# Altium footprint library Small Outline (+1.27mm Pitch).PcbLib: 4 footprints
Each footprint in its own frame and in the unit in brackets; x right, y up, seen from the top. Pads: shape width x height; smd on the part's side, far side on the other; paste and mask are expansions set on the pad; w line width, h text height; cw(c..) or ccw(c..) is an arc to the next point about the centre after c.
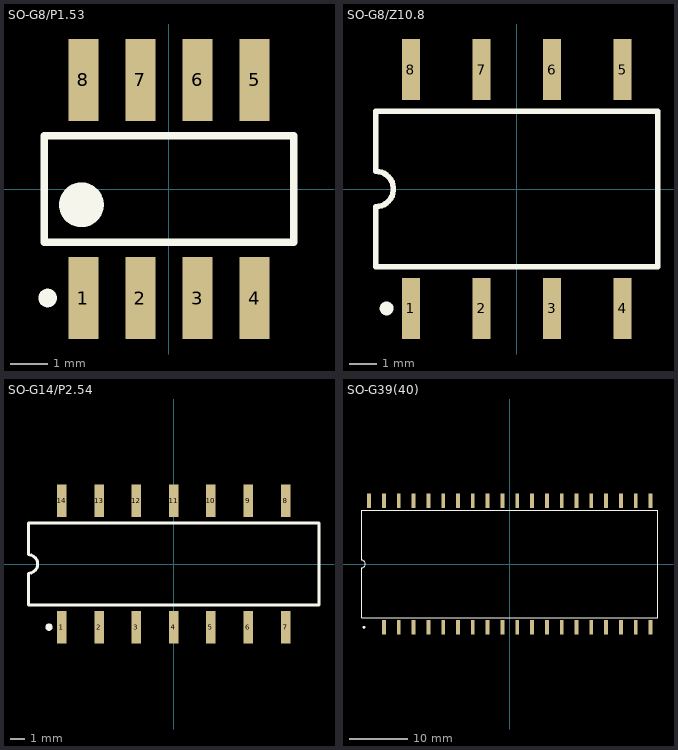
[diagram p0: the footprints below, top view; thin cyan lines are the x and y axes]

## SO-G8/P1.53 [mm] "Small Outline; 8 Leads; Body Width 3.5 mm; Pitch 1.53 mm"
height 1.7
pads (8):
  rect 0.8x2.2 smd: 1(-2.295,-2.925) 2(-0.765,-2.925) 3(0.765,-2.925) 4(2.295,-2.925) 5(2.295,2.925) 6(0.765,2.925) 7(-0.765,2.925) 8(-2.295,2.925)
Top Overlay:
  circle w0.25: c-3.255,-2.925 r0.125
  circle w0.6: c-2.35,-0.425 r0.3
  lines w0.2: -3.35,-1.425 -3.35,-0.475 -3.35,1.425 3.35,1.425 3.35,-1.425 -3.35,-1.425

## SO-G8/Z10.8 [mm] "Small Outline; 8 Leads; Body Width 6.4 mm; Pitch 2.54 mm"
height 4.57
pads (8):
  rect 0.65x2.2 smd: 1(-3.81,-4.3) 2(-1.27,-4.3) 3(1.27,-4.3) 4(3.81,-4.3) 5(3.81,4.3) 6(1.27,4.3) 7(-1.27,4.3) 8(-3.81,4.3)
Top Overlay:
  circle w0.25: c-4.685,-4.3 r0.125
  lines w0.2: -5.075,-2.8 5.075,-2.8 5.075,2.8 -5.075,2.8 -5.075,0.635 cw(c-5.075,0) -5.075,-0.635 -5.075,-2.8

## SO-G14/P2.54 [mm] "Small Outline; 14 Leads; Body Width 6.4 mm; Pitch 2.54 mm"
height 4.57
pads (14):
  rect 0.65x2.2 smd: 1(-7.62,-4.3) 2(-5.08,-4.3) 3(-2.54,-4.3) 4(0,-4.3) 5(2.54,-4.3) 6(5.08,-4.3) 7(7.62,-4.3) 8(7.62,4.3) 9(5.08,4.3) 10(2.54,4.3) 11(0,4.3) 12(-2.54,4.3) 13(-5.08,4.3) 14(-7.62,4.3)
Top Overlay:
  circle w0.25: c-8.495,-4.3 r0.125
  lines w0.2: -9.9,-2.8 -9.9,-0.635 ccw(c-9.9,0) -9.9,0.635 -9.9,2.8 9.9,2.8 9.9,-2.8 -9.9,-2.8

## SO-G39(40) [mm] "Small Outline; 39 Leads; Pitch 2.54 mm"
height 9.53
pads (39):
  rect 0.65x2.55 smd: 2(-21.59,-10.85) 3(-19.05,-10.85) 4(-16.51,-10.85) 5(-13.97,-10.85) 6(-11.43,-10.85) 7(-8.89,-10.85) 8(-6.35,-10.85) 9(-3.81,-10.85) 10(-1.27,-10.85) 11(1.27,-10.85) 12(3.81,-10.85) 13(6.35,-10.85) 14(8.89,-10.85) 15(11.43,-10.85) 16(13.97,-10.85) 17(16.51,-10.85) 18(19.05,-10.85) 19(21.59,-10.85) 20(24.13,-10.85) 21(24.13,10.85) 22(21.59,10.85) 23(19.05,10.85) 24(16.51,10.85) 25(13.97,10.85) 26(11.43,10.85) 27(8.89,10.85) 28(6.35,10.85) 29(3.81,10.85) 30(1.27,10.85) 31(-1.27,10.85) 32(-3.81,10.85) 33(-6.35,10.85) 34(-8.89,10.85) 35(-11.43,10.85) 36(-13.97,10.85) 37(-16.51,10.85) 38(-19.05,10.85) 39(-21.59,10.85) 40(-24.13,10.85)
Top Overlay:
  circle w0.25: c-24.98,-10.85 r0.125
  lines w0.2: -25.4,-9.175 25.4,-9.175 25.4,9.175 -25.4,9.175 -25.4,0.635 cw(c-25.4,0) -25.4,-0.635 -25.4,-9.175